# Altium footprint library Tactile switch SPST.PcbLib: 1 footprints
Each footprint in its own frame and in the unit in brackets; x right, y up, seen from the top. Pads: shape width x height; smd on the part's side, far side on the other; paste and mask are expansions set on the pad; w line width, h text height; cw(c..) or ccw(c..) is an arc to the next point about the centre after c.
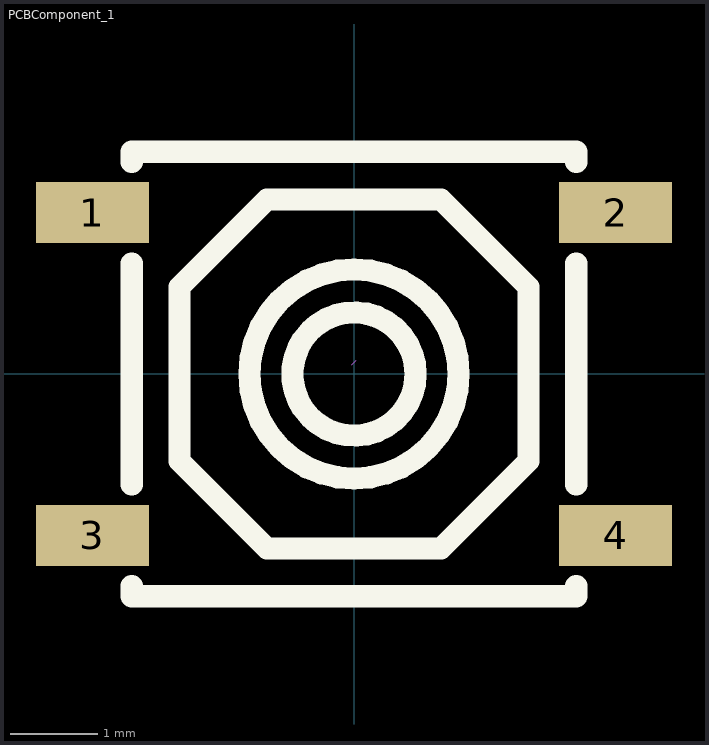
[diagram p0: the footprint, top view; thin cyan lines are the x and y axes]

## PCBComponent_1 [mm]
pads (4):
  rect 1.3x0.7 smd: 1(-3,1.85) 2(3,1.85) 3(-3,-1.85) 4(3,-1.85)
Top Overlay:
  circle w0.254: c0,0 r0.707
  circle w0.254: c0,0 r1.2
  lines w0.254: -2.55,-2.431 -2.55,-2.55 2.55,-2.55 2.55,-2.431 ; -2.55,-1.269 -2.55,1.269 ; -2.55,2.431 -2.55,2.55 2.55,2.55 2.55,2.431 ; 2.55,-1.269 2.55,1.269 ; -2,1 -1,2 1,2 ; -2,1 -2,1 ; -2,1 -2,-1 -1,-2 1,-2 2,-1 2,1 1,2 ; 1,2 1,2
Mechanical 15:
  lines w0.003: -0.025,0.107 0.025,0.158
3D body "b3sn-3012.stp": height 3.1, standoff 0, extent -3.5,-3.25 3.5,3.25